# Altium schematic symbol library 4051.SchLib: 2 symbols
Pins are listed as number, name and electrical type; pins without a type are passive.

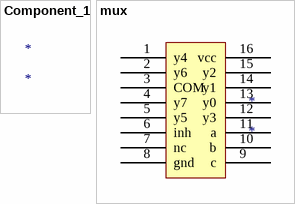
[diagram p0: symbols Component_1 to mux]

## Component_1
designator *

## mux
designator *
pins: 1 y4, 2 y6, 3 COM, 4 y7, 5 y5, 6 inh, 7 nc, 8 gnd, 9 c, 10 b, 11 a, 12 y3, 13 y0, 14 y1, 15 y2, 16 vcc